# EAGLE library part DPM_OEM (library wheat)
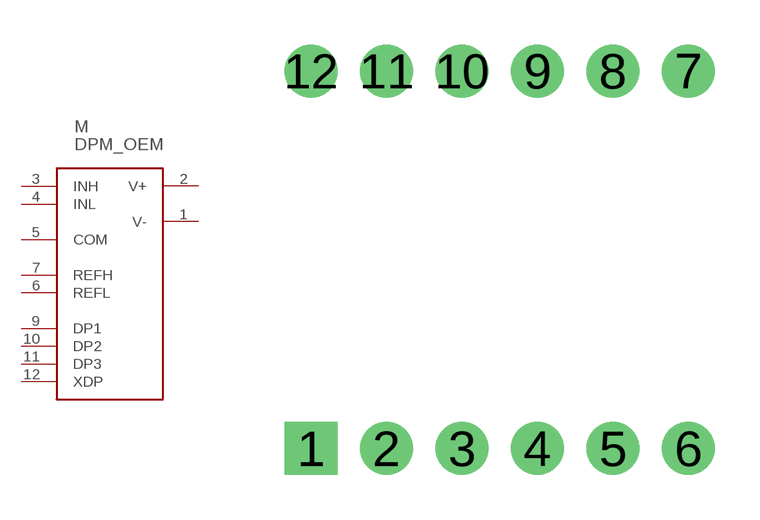
[diagram p197: symbol with the pads of DPM_OEM; footprint DPM_OEM]

Designator prefix M

## DPM_OEM  [DPM_OEM]
1  V-  out
2  V+  out
3  INH  in
4  INL  in
5  COM  pas
6  REFL  pas
7  REFH  pas
9  DP1  pas
10  DP2  pas
11  DP3  pas
12  XDP  pas

## Footprint DPM_OEM (pad centres in mm)
drill 0.8 pad 1.778 square: 1 -6.35,-6.35
drill 0.8 pad 1.778: 2 -3.81,-6.35; 3 -1.27,-6.35; 4 1.27,-6.35; 5 3.81,-6.35; 6 6.35,-6.35; 7 6.35,6.35; 8 3.81,6.35; 9 1.27,6.35; 10 -1.27,6.35; 11 -3.81,6.35; 12 -6.35,6.35